# Altium schematic symbol library Stmpe16m31.Schlib: 1 symbol
Pins are listed as number, name and electrical type; pins without a type are passive.

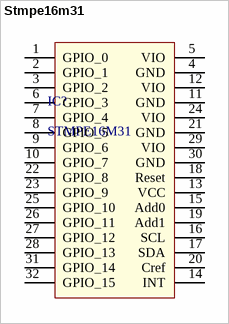
[diagram p0: symbol Stmpe16m31]

## Stmpe16m31
designator IC?, comment STMPE16M31
Capacitive Touch Sensors S-Touch 16 Cap Sens 15fF 512 Steps 30pF
pins: 1 GPIO_0, 2 GPIO_1, 3 GPIO_2, 4 GND, 5 VIO, 6 GPIO_3, 7 GPIO_4, 8 GPIO_5, 9 GPIO_6, 10 GPIO_7, 11 GND, 12 VIO, 13 VCC, 14 INT, 15 Add0, 16 SCL, 17 SDA, 18 Reset, 19 Add1, 20 Cref, 21 GND, 22 GPIO_8, 23 GPIO_9, 24 VIO, 25 GPIO_10, 26 GPIO_11, 27 GPIO_12, 28 GPIO_13, 29 VIO, 30 GND, 31 GPIO_14, 32 GPIO_15